# EAGLE library part MMA7260/MMA7261 (library mma7260_7261)
MMA7260Q Triple axis accelerometer from Freescale. Center pad has reduced paste layer for solder short reduction. Spark Fun Electronics SKU : COM-00308
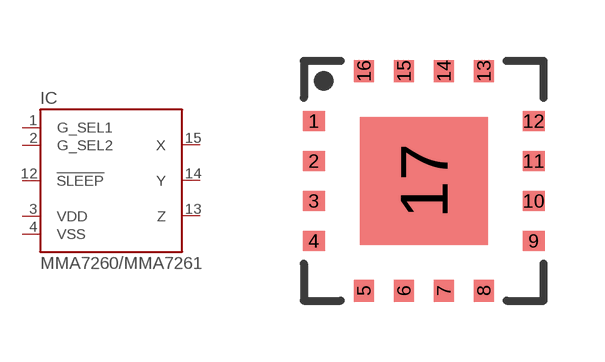
[diagram p0: symbol with the pads of QFN16; footprint QFN16]

Designator prefix IC

## MMA7260/MMA7261  [QFN16]
1  G_SEL1  in
2  G_SEL2  in
3  VDD  pwr
4  VSS  pwr
12  !SLEEP  in
13  Z  pas
14  Y  pas
15  X  pas

## Footprint QFN16 (pad centres in mm)
smd 0.55 x 0.5: 1 -2.75,1.5; 2 -2.75,0.5; 3 -2.75,-0.5; 4 -2.75,-1.5; 9 2.75,-1.5; 10 2.75,-0.5; 11 2.75,0.5; 12 2.75,1.5
smd 0.5 x 0.55: 5 -1.5,-2.75; 6 -0.5,-2.75; 7 0.5,-2.75; 8 1.5,-2.75; 13 1.5,2.75; 14 0.5,2.75; 15 -0.5,2.75; 16 -1.5,2.75
smd 3.2 x 3.2: 17 0,0